# Altium footprint library Connectors.PcbLib: 147 footprints (part 7 of 10)
Each footprint in its own frame and in the unit in brackets; x right, y up, seen from the top. Pads: shape width x height; smd on the part's side, far side on the other; paste and mask are expansions set on the pad; w line width, h text height; cw(c..) or ccw(c..) is an arc to the next point about the centre after c.
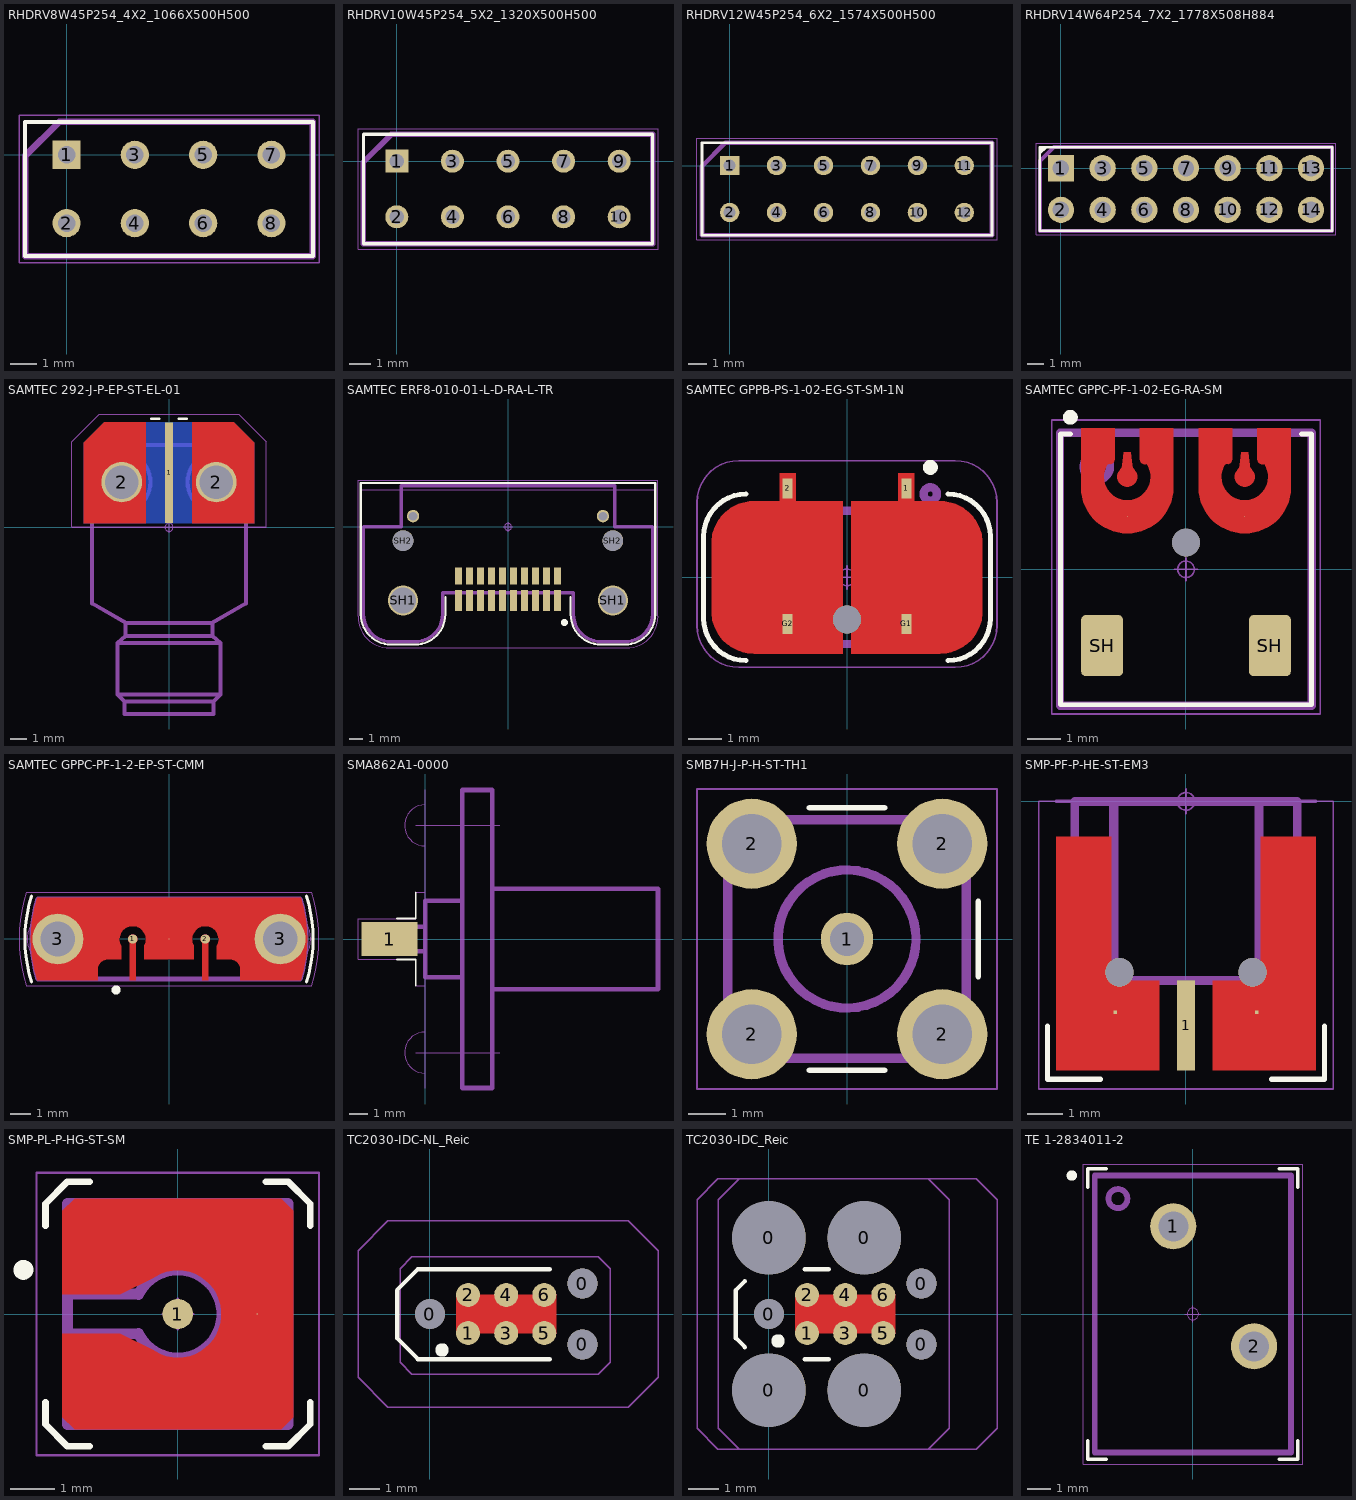
[diagram p6: the footprints below, top view; thin cyan lines are the x and y axes]

## RHDRV8W45P254_4X2_1066X500H500 [mm] "Header, Vertical Receptacle, 2.54 mm pitch; 0.45 mm lead width, 8 pins, 2 rows, 4 pins per row, 10.66 mm L X 5.00 mm W X 5.00 mm H body"
height 5
pads (8):
  rect 1.05x1.05 / inner round 1.05 / far side rect 1.05x1.05 hole 0.65 paste-2539.97: 1(0,0)
  round 1.05 hole 0.65 paste-2539.97: 2(0,-2.54) 3(2.54,0) 4(2.54,-2.54) 5(5.08,0) 6(5.08,-2.54) 7(7.62,0) 8(7.62,-2.54)
Top Overlay:
  lines w0.15: -1.54,-3.77 -1.54,1.23 9.16,1.23 9.16,-3.77 -1.54,-3.77
Top Assembly:
  lines w0.25: -1.54,-3.77 -1.54,-0.04 -0.27,1.23 9.16,1.23 9.16,-3.77 -1.54,-3.77
  text ".Designator" at 0.4,-1.7 h1.5
Top Courtyard:
  circle w0.05: c0,0 r0.25
  lines w0.05: -0.35,0 0.35,0 ; 0,-0.35 0,0.35 ; -1.77,-4.02 -1.77,1.48 9.39,1.48 9.39,-4.02 -1.77,-4.02
3D body "RHDRV8W45P254_4X2_1066X500H500.STEP": height 5, standoff -2, extent -1.52,-3.77 9.14,1.23

## RHDRV10W45P254_5X2_1320X500H500 [mm] "Header, Vertical Receptacle, 2.54 mm pitch; 0.45 mm lead width, 10 pins, 2 rows, 5 pins per row, 13.20 mm L X 5.00 mm W X 5.00 mm H body"
height 5
pads (10):
  rect 1.05x1.05 / inner round 1.05 / far side rect 1.05x1.05 hole 0.65 paste-2539.97: 1(0,0)
  round 1.05 hole 0.65 paste-2539.97: 2(0,-2.54) 3(2.54,0) 4(2.54,-2.54) 5(5.08,0) 6(5.08,-2.54) 7(7.62,0) 8(7.62,-2.54) 9(10.16,0) 10(10.16,-2.54)
Top Overlay:
  lines w0.15: -1.52,-3.77 11.68,-3.77 11.68,1.23 -1.52,1.23 -1.52,-3.77
Top Assembly:
  lines w0.25: -1.52,-3.77 11.68,-3.77 11.68,1.23 -0.25,1.23 -1.52,-0.04 -1.52,-3.77
  text ".Designator" at 2.1,-1.7 h1.5
Top Courtyard:
  circle w0.05: c0,0 r0.25
  lines w0.05: -0.35,0 0.35,0 ; 0,-0.35 0,0.35 ; -1.77,-4.02 11.93,-4.02 11.93,1.48 -1.77,1.48 -1.77,-4.02
3D body "RHDRV10W45P254_5X2_1320X500H500.STEP": height 5, standoff -2, extent -1.52,-3.77 11.68,1.23

## RHDRV12W45P254_6X2_1574X500H500 [mm] "Header, Vertical Receptacle, 2.54 mm pitch; 0.45 mm lead width, 12 pins, 2 rows, 6 pins per row, 15.74 mm L X 5.00 mm W X 5.00 mm H body"
height 5
pads (12):
  rect 1.05x1.05 / inner round 1.05 / far side rect 1.05x1.05 hole 0.65 paste-2539.97: 1(0,0)
  round 1.05 hole 0.65 paste-2539.97: 2(0,-2.54) 3(2.54,0) 4(2.54,-2.54) 5(5.08,0) 6(5.08,-2.54) 7(7.62,0) 8(7.62,-2.54) 9(10.16,0) 10(10.16,-2.54) 11(12.7,0) 12(12.7,-2.54)
Top Overlay:
  lines w0.15: -1.5,-3.77 14.2,-3.77 14.2,1.23 -1.5,1.23 -1.5,-3.77
Top Assembly:
  lines w0.25: -1.5,-3.77 14.2,-3.77 14.2,1.23 -0.23,1.23 -1.5,-0.04 -1.5,-3.77
  text ".Designator" at 2.9,-1.7 h1.5
Top Courtyard:
  circle w0.05: c0,0 r0.25
  lines w0.05: -0.35,0 0.35,0 ; 0,-0.35 0,0.35 ; -1.77,-4.02 14.47,-4.02 14.47,1.48 -1.77,1.48 -1.77,-4.02
3D body "RHDRV12W45P254_6X2_1574X500H500.STEP": height 5, standoff -2, extent -1.52,-3.77 14.22,1.23

## RHDRV14W64P254_7X2_1778X508H884 [mm] "Header, Vertical Receptacle, 2.54 mm pitch; 0.64 mm lead width, 14 pins, 2 rows, 7 pins per row, 17.78 mm L X 5.08 mm W X 8.84 mm H body"
height 8.84
pads (14):
  rect 1.6x1.6 hole 1 paste-2539.97: 1(0,0)
  round 1.6 hole 1 paste-2539.97: 2(0,-2.54) 3(2.54,0) 4(2.54,-2.54) 5(5.08,0) 6(5.08,-2.54) 7(7.62,0) 8(7.62,-2.54) 9(10.16,0) 10(10.16,-2.54) 11(12.7,0) 12(12.7,-2.54) 13(15.24,0) 14(15.24,-2.54)
Top Overlay:
  region: -0.811,1.282 -1.278,0.815 -1.28,1.28
  lines w0.15: -1.28,-3.82 -1.28,1.28 16.52,1.28 16.52,-3.82 -1.28,-3.82
Top Assembly:
  lines w0.25: -1.28,-3.82 -1.28,0.433 -0.433,1.28 16.52,1.28 16.52,-3.82 -1.28,-3.82
  text ".Designator" at 0,0 h1.5
Top Courtyard:
  circle w0.05: c0,0 r0.25
  lines w0.05: -0.35,0 0.35,0 ; 0,-0.35 0,0.35 ; -1.52,-4.06 -1.52,1.52 16.76,1.52 16.76,-4.06 -1.52,-4.06
3D body "RHDRV14W64P254_7X2_1778X508H884.STEP": height 8.84, standoff -2, extent -1.27,-3.81 16.51,1.27

## SAMTEC 292-J-P-EP-ST-EL-01 [mm] "50 Ohm 2.92 mm Jack, Edge Launch Compression Mount"
height 4
pads (3):
  rect 0.52x6.23 smd paste-2539.97: 1(0,3.365)
  round 2.5 hole 2.06 paste-2539.97: 2(-2.921,2.79) 2(2.921,2.79)
Top Layer:
  region: -1.45,6.48 -3.99,6.48 -5.26,5.21 -5.26,0.25 -1.45,0.25
  region: 1.45,6.48 3.99,6.48 5.26,5.21 5.26,0.25 1.45,0.25
Bottom Layer:
  region: 3.99,6.48 -3.99,6.48 -5.26,5.21 -5.26,0.25 5.26,0.25 5.26,5.21
Top Overlay:
  lines w0.15: -1.1,6.7 -0.6,6.7 ; 0.6,6.7 1.1,6.7
Top Assembly:
  circle w0.25: c2.921,2.79 r1.778
  circle w0.25: c-2.921,2.79 r1.778
  lines w0.25: -3.175,-10.343 3.175,-10.343 ; -3.175,-10.343 -2.75,-10.768 ; -3.175,-10.343 -3.175,-7.14 ; -3.175,-7.14 3.175,-7.14 ; -3.175,-7.14 -2.68,-6.71 ; -2.75,-10.768 2.75,-10.768 ; -2.75,-10.768 -2.751,-11.536 2.751,-11.536 2.75,-10.768 ; -2.68,-6.71 2.68,-6.71 ; -2.68,-6.71 -2.68,-5.905 ; -2.68,-5.905 2.68,-5.905 ; -2.68,-5.905 -4.763,-4.703 -4.761,5.076 4.761,5.076 4.763,-4.703 2.68,-5.905 ; 2.68,-6.71 3.175,-7.14 ; 2.68,-6.71 2.68,-5.905 ; 2.75,-10.768 3.175,-10.343 ; 3.175,-10.343 3.175,-7.14
  text ".Designator" at -3.378,-0.339 h1.5
Bottom Assembly:
  lines w0.25: -3.175,-10.343 3.175,-10.343 ; -3.175,-10.343 -2.75,-10.768 ; -3.175,-10.343 -3.175,-7.14 ; -3.175,-7.14 3.175,-7.14 ; -3.175,-7.14 -2.68,-6.71 ; -2.75,-10.768 2.75,-10.768 ; -2.75,-10.768 -2.751,-11.536 2.751,-11.536 2.75,-10.768 ; -2.68,-6.71 2.68,-6.71 ; -2.68,-6.71 -2.68,-5.905 ; -2.68,-5.905 2.68,-5.905 ; -2.68,-5.905 -4.763,-4.703 -4.761,5.076 4.761,5.076 4.763,-4.703 2.68,-5.905 ; 2.68,-6.71 3.175,-7.14 ; 2.68,-6.71 2.68,-5.905 ; 2.75,-10.768 3.175,-10.343 ; 3.175,-10.343 3.175,-7.14
Board:
  lines w0.1: -6,0 6,0
Top Courtyard:
  circle w0.05: c0,0 r0.25
  lines w0.05: -0.35,0 0.35,0 ; 0,-0.35 0,0.35 ; -6,0 -6,5.3 -4.3,7 4.3,7 6,5.3 6,0 -6,0
Bottom Courtyard:
  circle w0.05: c0,0 r0.25
  lines w0.05: -0.35,0 0.35,0 ; 0,-0.35 0,0.35 ; -6,0 -6,5.3 -4.3,7 4.3,7 6,5.3 6,0 -6,0
3D body "292-J-P-EP-ST-EL-01.stp": height 4.11, standoff -3.84, extent -4.763,-11.535 4.763,5.33

## SAMTEC ERF8-010-01-L-D-RA-L-TR [mm] "0.80 mm Edge Rate® Rugged High Speed Socket, Right-Angle, 10 pins"
height 6.25
pads (26):
  rect 0.5x1.25 smd paste-2539.97: 1(3.6,-3.575) 3(2.8,-3.575) 5(2,-3.575) 7(1.2,-3.575) 9(0.4,-3.575) 11(-0.4,-3.575) 13(-1.2,-3.575) 15(-2,-3.575) 17(-2.8,-3.575) 19(-3.6,-3.575)
  rect 0.5x1.5 smd paste-2539.97: 2(3.6,-5.35) 4(2.8,-5.35) 6(2,-5.35) 8(1.2,-5.35) 10(0.4,-5.35) 12(-0.4,-5.35) 14(-1.2,-5.35) 16(-2,-5.35) 18(-2.8,-5.35) 20(-3.6,-5.35)
  round 2.2 hole 1.905: SH1(-7.625,-5.35) SH1(7.625,-5.35)
  round 1.5 hole 1.5 unplated paste-2539.97: SH2(-7.625,-1) SH2(7.625,-1)
  round 0.9 hole 0.63 unplated: SH3(-6.9,0.78) SH3(6.9,0.78)
Top Overlay:
  circle w0.3: c4.1,-6.95 r0.1
  lines w0.15: -4.55,-5.1 -4.55,-6.35 cw(c-6.75,-6.35) -6.75,-8.55 -8.5,-8.55 cw(c-8.5,-6.35) -10.7,-6.35 -10.7,3.2 10.7,3.2 10.7,-6.35 cw(c8.5,-6.35) 8.5,-8.55 6.75,-8.55 cw(c6.75,-6.35) 4.55,-6.35 4.55,-5.1
Top Assembly:
  lines w0.25: -10.5,-6.35 ccw(c-8.5,-6.35) -8.5,-8.35 -6.75,-8.35 ccw(c-6.75,-6.35) -4.75,-6.35 -4.75,-4.799 4.75,-4.799 4.75,-6.35 ccw(c6.75,-6.35) 6.75,-8.35 8.5,-8.35 ccw(c8.5,-6.35) 10.5,-6.35 10.5,0 7.75,0 7.75,3 -7.75,3 -7.75,0 -10.5,0 -10.5,-6.35
Top Courtyard:
  circle w0.05: c0,0 r0.25
  lines w0.05: -10.7,2.7 10.7,2.7 ; -0.35,0 0.35,0 ; 0,-0.35 0,0.35 ; -10.9,-6.5 ccw(c-8.6,-6.5) -8.6,-8.8 8.6,-8.8 ccw(c8.6,-6.5) 10.9,-6.5 10.9,3.4 -10.9,3.4 -10.9,-6.5
  text "EDGE" at -10.433,1.45 h1
3D body "ERF8-010-01-L-D-RA-L-TR.stp": height 6.26, standoff -1.54, extent -10.5,-8.35 10.5,3

## SAMTEC GPPB-PS-1-02-EG-ST-SM-1N [mm] "SMPM Connector Plug, Male Pin Surface Mount, Through Hole Solder"
height 4.1
pads (4):
  rect 0.3x0.6 smd paste-1 mask+0: 1(1.778,2.667) 2(-1.778,2.667) G1(1.778,-1.397) G2(-1.778,-1.397)
via 0,-1.27 diameter 0.838 hole 0.838
Top Layer:
  region: 437 vertices and 0 holes, not listed, extent 0.127,-2.286 4.064,2.286
  region: 2.019,2.134 1.841,2.134 1.841,1.549 1.714,1.549 1.714,2.134 1.537,2.134 1.537,3.124 2.019,3.124
  region: 437 vertices and 0 holes, not listed, extent -4.064,-2.286 -0.127,2.286
  region: -1.537,2.134 -1.714,2.134 -1.714,1.549 -1.841,1.549 -1.841,2.134 -2.019,2.134 -2.019,3.124 -1.537,3.124
  pour cut-out: -2.413,1.986 -2.381,1.969 -2.325,1.921 -2.285,1.86 -2.264,1.79 -2.261,1.753 -2.264,1.716 -2.285,1.646 -2.325,1.584 -2.381,1.536 -2.413,1.519 -2.413,1.397 -2.401,1.38 -2.382,1.344 -2.369,1.306 -2.363,1.265 -2.362,1.245 -2.362,1.067 -2.248,1.067 -2.248,0.32 -2.28,0.243 -2.29,0.075 -2.247,-0.086 -2.153,-0.225 -2.02,-0.327 -1.862,-0.381 -1.694,-0.381 -1.536,-0.327 -1.403,-0.225 -1.309,-0.086 -1.266,0.075 -1.276,0.243 -1.308,0.32 -1.308,1.067 -1.194,1.067 -1.194,1.245 -1.193,1.265 -1.187,1.306 -1.174,1.344 -1.155,1.38 -1.143,1.397 -1.143,1.519 -1.176,1.536 -1.231,1.584 -1.271,1.646 -1.292,1.716 -1.295,1.753 -1.292,1.79 -1.271,1.859 -1.231,1.921 -1.175,1.968 -1.143,1.984 -1.143,2.286 -2.413,2.286
  pour cut-out: 2.413,1.986 2.381,1.969 2.325,1.921 2.285,1.86 2.264,1.79 2.261,1.753 2.264,1.716 2.285,1.646 2.325,1.584 2.381,1.536 2.413,1.519 2.413,1.397 2.401,1.38 2.382,1.344 2.369,1.306 2.363,1.265 2.362,1.245 2.362,1.067 2.248,1.067 2.248,0.32 2.28,0.243 2.29,0.075 2.247,-0.086 2.153,-0.225 2.02,-0.327 1.862,-0.381 1.694,-0.381 1.536,-0.327 1.403,-0.225 1.309,-0.086 1.266,0.075 1.276,0.243 1.308,0.32 1.308,1.067 1.194,1.067 1.194,1.245 1.193,1.265 1.187,1.306 1.174,1.344 1.155,1.38 1.143,1.397 1.143,1.519 1.176,1.536 1.231,1.584 1.271,1.646 1.292,1.716 1.295,1.753 1.292,1.79 1.271,1.859 1.231,1.921 1.175,1.968 1.143,1.984 1.143,2.286 2.413,2.286
Top Overlay:
  circle w0.25: c2.5,3.3 r0.1
  lines w0.15: -3.03,-2.5 cw(c-3.03,-1.23) -4.3,-1.23 -4.3,-1 -4.3,1.23 cw(c-3.03,1.23) -3.03,2.5 ; 3.03,-2.5 ccw(c3.03,-1.23) 4.3,-1.23 4.3,-1 4.3,1.23 ccw(c3.03,1.23) 3.03,2.5
Top Solder:
  drawing of 4 lines, arcs and shapes, not listed
Top Assembly:
  circle w0.25: c2.5,2.5 r0.2
  circle w0.25: c1.8,0 r1.4
  circle w0.25: c-1.8,0 r1.4
  lines w0.25: -3.8,-1 ccw(c-2.8,-1) -2.8,-2 2.8,-2 ccw(c2.8,-1) 3.8,-1 3.8,1 ccw(c2.8,1) 2.8,2 -2.8,2 ccw(c-2.8,1) -3.8,1 -3.8,-1
  text ".Designator" at -3.378,-3.339 h1.5
Top Courtyard:
  circle w0.05: c0,0 r0.25
  lines w0.05: -0.35,0 0.35,0 ; 0,-0.35 0,0.35 ; -4.5,-1.45 ccw(c-3.25,-1.45) -3.25,-2.7 3.25,-2.7 ccw(c3.25,-1.45) 4.5,-1.45 4.5,2.25 ccw(c3.25,2.25) 3.25,3.5 -3.25,3.5 ccw(c-3.25,2.25) -4.5,2.25 -4.5,-1.45
3D body "GPPB-PS-1-02-EG-ST-SM-1N.stp": height 4.08, standoff -0.99, extent -3.81,-2.032 3.81,2.769

## SAMTEC GPPC-PF-1-02-EG-RA-SM [mm] "Magnum RF® Ganged, Multi-Port SMPM Block, 2 pos, SMT"
height 4
pads (7):
  round 0.025 smd: 1(-1.778,2.8) 2(1.778,2.8)
  round 0.025 smd paste-1: G(-1.778,1.6) G(1.778,1.6)
  rrect22% 1.27x1.85 smd mask+0: SH(-2.54,-2.31) SH(2.54,-2.31)
  round 0.84 hole 0.84 unplated: ""(0,0.81)
Top Layer:
  region: -1.631,3.152 -1.63,3.146 -1.629,3.141 -1.628,3.136 -1.627,3.131 -1.626,3.125 -1.625,3.12 -1.623,3.115 -1.622,3.11 -1.62,3.105 -1.619,3.099 -1.617,3.094 -1.615,3.089 -1.613,3.084 -1.611,3.08 -1.608,3.075 -1.606,3.07 -1.603,3.065 -1.601,3.06 -1.598,3.056 -1.595,3.051 -1.593,3.046 -1.59,3.042 -1.587,3.038 -1.583,3.033 -1.58,3.029 -1.577,3.025 -1.573,3.021 -1.57,3.016 -1.566,3.012 -1.562,3.009 -1.533,2.972 -1.509,2.932 -1.491,2.889 -1.481,2.843 -1.478,2.797 -1.482,2.75 -1.494,2.705 -1.512,2.662 -1.537,2.622 -1.567,2.587 -1.603,2.557 -1.643,2.532 -1.686,2.515 -1.731,2.504 -1.778,2.5 -1.825,2.504 -1.87,2.515 -1.913,2.532 -1.953,2.557 -1.989,2.587 -2.019,2.622 -2.044,2.662 -2.062,2.705 -2.074,2.75 -2.078,2.797 -2.075,2.843 -2.065,2.889 -2.047,2.932 -2.023,2.972 -1.994,3.009 -1.99,3.012 -1.986,3.016 -1.983,3.021 -1.979,3.025 -1.976,3.029 -1.973,3.033 -1.969,3.038 -1.966,3.042 -1.963,3.046 -1.961,3.051 -1.958,3.056 -1.955,3.06 -1.953,3.065 -1.95,3.07 -1.948,3.075 -1.945,3.08 -1.943,3.084 -1.941,3.089 -1.939,3.094 -1.937,3.099 -1.936,3.105 -1.934,3.11 -1.933,3.115 -1.931,3.12 -1.93,3.125 -1.929,3.131 -1.928,3.136 -1.927,3.141 -1.926,3.146 -1.925,3.152 -1.878,3.537 -1.678,3.537
  region: 1.925,3.152 1.926,3.146 1.927,3.141 1.928,3.136 1.929,3.131 1.93,3.125 1.931,3.12 1.933,3.115 1.934,3.11 1.936,3.105 1.937,3.099 1.939,3.094 1.941,3.089 1.943,3.084 1.945,3.08 1.948,3.075 1.95,3.07 1.953,3.065 1.955,3.06 1.958,3.056 1.961,3.051 1.963,3.046 1.966,3.042 1.969,3.038 1.973,3.033 1.976,3.029 1.979,3.025 1.983,3.021 1.986,3.016 1.99,3.012 1.994,3.009 2.023,2.972 2.047,2.932 2.065,2.889 2.075,2.843 2.078,2.797 2.074,2.75 2.062,2.705 2.044,2.662 2.019,2.622 1.989,2.587 1.953,2.557 1.913,2.532 1.87,2.515 1.825,2.504 1.778,2.5 1.731,2.504 1.686,2.515 1.643,2.532 1.603,2.557 1.567,2.587 1.537,2.622 1.512,2.662 1.494,2.705 1.482,2.75 1.478,2.797 1.481,2.843 1.491,2.889 1.509,2.932 1.533,2.972 1.562,3.009 1.566,3.012 1.57,3.016 1.573,3.021 1.577,3.025 1.58,3.029 1.583,3.033 1.587,3.038 1.59,3.042 1.593,3.046 1.595,3.051 1.598,3.056 1.601,3.06 1.603,3.065 1.606,3.07 1.608,3.075 1.611,3.08 1.613,3.084 1.615,3.089 1.617,3.094 1.619,3.099 1.62,3.105 1.622,3.11 1.623,3.115 1.625,3.12 1.626,3.125 1.627,3.131 1.628,3.136 1.629,3.141 1.63,3.146 1.631,3.152 1.678,3.537 1.878,3.537
  region: 169 vertices and 0 holes, not listed, extent -3.173,1.085 -0.383,4.27
  region: 169 vertices and 0 holes, not listed, extent 0.383,1.085 3.173,4.27
Top Overlay:
  circle w0.25: c-3.5,4.6 r0.1
  lines w0.15: -3.5,4.1 -3.8,4.1 -3.8,-4.1 3.8,-4.1 3.8,4.1 3.5,4.1
Top Paste:
  drawing of 4 lines, arcs and shapes, not listed
Top Assembly:
  circle w0.25: c-2.7,3.1 r0.4
  lines w0.25: -3.81,-4.13 3.81,-4.13 3.81,4.13 -3.81,4.13 -3.81,-4.13
  text ".Designator" at -3.378,-0.339 h1.5
Top Courtyard:
  circle w0.05: c0,0 r0.25
  lines w0.05: -0.35,0 0.35,0 ; 0,-0.35 0,0.35 ; -4.06,-4.38 4.06,-4.38 4.06,4.52 -4.06,4.52 -4.06,-4.38
3D body "GPPC-PF-1-02-EG-RA-SM.stp": height 4.71, standoff -0.67, extent -3.81,-4.143 3.81,4.112

## SAMTEC GPPC-PF-1-2-EP-ST-CMM [mm] "Magnum RF™ Ganged, Two-Port SMPM Block, Compression Mount"
height 6.22
pads (5):
  round 0.46 smd paste-2539.97: 1(-1.78,0) 2(1.78,0)
  round 2.5 hole 1.7: 3(-5.46,0) 3(5.46,0)
  round 0.025 smd paste-2539.97: 3(0,0)
Top Layer:
  region: -1.743,0.216 -1.707,0.207 -1.673,0.192 -1.641,0.172 -1.614,0.147 -1.59,0.118 -1.572,0.086 -1.559,0.051 -1.551,0.015 -1.55,-0.022 -1.555,-0.059 -1.566,-0.095 -1.582,-0.128 -1.603,-0.158 -1.63,-0.186 -1.63,-2.02 -1.93,-2.02 -1.93,-0.186 -1.957,-0.158 -1.978,-0.128 -1.994,-0.095 -2.005,-0.059 -2.01,-0.022 -2.008,0.015 -2.001,0.051 -1.988,0.086 -1.97,0.118 -1.946,0.147 -1.919,0.172 -1.887,0.192 -1.853,0.207 -1.817,0.216 -1.78,0.219
  region: 1.817,0.216 1.853,0.207 1.887,0.192 1.919,0.172 1.946,0.147 1.97,0.118 1.988,0.086 2.001,0.051 2.008,0.015 2.01,-0.022 2.005,-0.059 1.994,-0.095 1.978,-0.128 1.957,-0.158 1.93,-0.186 1.93,-2.02 1.63,-2.02 1.63,-0.186 1.603,-0.158 1.582,-0.128 1.566,-0.095 1.555,-0.059 1.55,-0.022 1.551,0.015 1.559,0.051 1.572,0.086 1.59,0.118 1.614,0.147 1.641,0.172 1.673,0.192 1.707,0.207 1.743,0.216 1.78,0.219
  region: 196 vertices and 0 holes, not listed, extent -6.78,-2.02 6.78,2.02
Top Overlay:
  circle w0.25: c-2.6,-2.5 r0.1
  lines w0.15: -6.756,-2.102 cw(c0,0) -6.756,2.102 ; 6.756,-2.103 ccw(c0,0) 6.756,2.102
Top Assembly:
  lines w0.25: -6.437,-1.969 cw(c0,0) -6.437,1.968 6.437,1.968 cw(c0,0) 6.437,-1.969 -6.437,-1.969
  text ".Designator" at -3.378,-0.339 h1.5
Top Courtyard:
  circle w0.05: c0,0 r0.25
  lines w0.05: -0.35,0 0.35,0 ; 0,-0.35 0,0.35 ; -7,-2.3 cw(c0,0) -7,2.3 7,2.3 cw(c0,0) 7,-2.3 -7,-2.3
Bottom Courtyard:
  circle w0.05: c5.46,0 r1.5
  circle w0.05: c-5.46,0 r1.5
3D body "GPPC-PF-1-2-EP-ST-CMM.stp": height 6.29, standoff -3.13, extent -6.756,-2.102 6.756,2.102

## SMA862A1-0000 [mm] "SMA Jack For Panel Receptacle 50Ohm 2 Holes"
height 1.27
pads (1):
  rect 3x1.8 smd paste-0.1 mask-0.1: 1(-1.9,0)
Top Overlay:
  lines w0.1: -1.5,-1.1 -0.5,-1.1 -0.5,-2.5 ; -1.5,1.1 -0.5,1.1 -0.5,2.5
Top Assembly:
  lines w0.25: 0,-0.65 -3,-0.65 -3,0.65 0,0.65 ; 2,-2.05 0,-2.05 0,2.05 2,2.05 ; 3.6,-2.7 12.5,-2.7 12.5,2.7 3.6,2.7 ; 2,-8 3.6,-8 3.6,8 2,8 2,-8
  text ".Designator" at 4.1,-0.4 h1.5
Bottom Assembly:
  lines w0.25: 2,-2.05 0,-2.05 0,2.05 2,2.05 ; 3.6,-2.7 12.5,-2.7 12.5,2.7 3.6,2.7 ; 2,-8 2,8 3.6,8 3.6,-8 2,-8
Top Courtyard:
  lines w0.05: -0.5,-6.1 4,-6.1 ; -0.5,6.1 4,6.1 ; 0,-8 0,8 ; 0,-7.2 cw(c0,-6.1) 0,-5 ; 0,-2.5 -0.5,-2.5 -0.5,-1.1 -3.6,-1.1 -3.6,1.1 -0.5,1.1 -0.5,2.5 0,2.5 ; 0,5 cw(c0,6.1) 0,7.2
Bottom Courtyard:
  lines w0.05: -0.5,-6.1 4,-6.1 ; -0.5,6.1 4,6.1 ; 0,-8 0,8 ; 0,-7.2 cw(c0,-6.1) 0,-5 ; 0,-2.5 -0.5,-2.5 -0.5,-1.1 -3.6,-1.1 -3.6,1.1 -0.5,1.1 -0.5,2.5 0,2.5 ; 0,5 cw(c0,6.1) 0,7.2
3D body "SMA862A1-0000.STEP": height 3.81, standoff -2.54, extent -3,-8 12.5,8

## SMB7H-J-P-H-ST-TH1 [mm] "Samtec 75? True 75™ SMB Jack, Through-hole"
height 6.35
pads (5):
  round 1.4 hole 0.9: 1(0,0)
  round 2.4 hole 1.6: 2(-2.54,-2.54) 2(-2.54,2.54) 2(2.54,-2.54) 2(2.54,2.54)
Top Overlay:
  lines w0.15: -1,-3.5 1,-3.5 ; -1,3.5 1,3.5 ; 3.5,-1 3.5,1
Top Assembly:
  circle w0.25: c0,0 r1.84
  lines w0.25: -3.175,-3.175 3.175,-3.175 3.175,3.175 -3.175,3.175 -3.175,-3.175
  text ".Designator" at -2.8,-2.8 h1.5
Top Courtyard:
  circle w0.05: c0,0 r0.25
  lines w0.05: -0.35,0 0.35,0 ; 0,-0.35 0,0.35 ; -4,-4 4,-4 4,4 -4,4 -4,-4
3D body "SMB7H_J_P_H_ST_TH1.STEP": height 7.99, standoff -3.44, extent -3.175,-3.175 3.175,3.175

## SMP-PF-P-HE-ST-EM3 [mm] "Samtec 50 Ohm SMP Plug, Edge Mount"
height 4.34
pads (3):
  rect 0.51x2.54 smd: 1(0,-6.35)
  rect 0.1x0.1 smd: 2(-2,-5.974) 2(2,-5.974)
via -1.885,-4.84 diameter 0.8 hole 0.8
via 1.885,-4.84 diameter 0.8 hole 0.8
Top Layer:
  region: 0.76,-7.62 0.76,-5.08 1.57,-5.08 1.628,-5.141 1.776,-5.219 1.942,-5.23 2.099,-5.171 2.217,-5.053 2.275,-4.896 2.264,-4.73 2.186,-4.582 2.125,-4.524 2.125,-1 3.675,-1 3.675,-7.62
  region: -0.76,-7.62 -0.76,-5.08 -1.57,-5.08 -1.628,-5.141 -1.776,-5.219 -1.942,-5.23 -2.099,-5.171 -2.217,-5.053 -2.275,-4.896 -2.264,-4.73 -2.186,-4.582 -2.125,-4.524 -2.125,-1 -3.675,-1 -3.675,-7.62
Top Overlay:
  lines w0.15: -3.925,-6.374 -3.925,-7.874 -2.425,-7.874 ; 2.425,-7.874 3.925,-7.874 3.925,-6.374
Top Assembly:
  lines w0.25: -3.15,-5.08 3.15,-5.08 ; -1.026,-5.08 -1.026,-7.37 -3.15,-7.37 -3.15,0 3.15,0 3.15,-7.37 1.025,-7.37 1.025,-5.08
  text ".Designator" at -3.378,-2.313 h1.5
Bottom Assembly:
  lines w0.25: -2.03,-5.08 2.069,-5.08 2.069,0 -2.03,0 -2.03,-5.08
Board:
  lines w0.1: -3.675,0 -2.125,0 -2.125,-5.08 2.125,-5.08 2.125,0 3.675,0
Top Courtyard:
  circle w0.05: c0,0 r0.25
  lines w0.05: -0.35,0 0.35,0 ; 0,-0.35 0,0.35 ; -4.175,-8.15 4.175,-8.15 4.175,0 -4.175,0 -4.175,-8.15
3D body "SMP-PF-P-HE-ST-EM3.stp": height 2.47, standoff -1.87, extent -3.174,-7.37 3.174,0

## SMP-PL-P-HG-ST-SM [mm] "Samtec 50 Ohm SMP Plug, Surface Mount, 40 GHz, SMP-SM Series"
height 4.1
pads (2):
  round 0.69 smd paste-2539.97: 1(0,0)
  round 0.025 smd: 2(1.8,0)
Top Layer:
  region: -2.615,-2.341 -2.615,-0.445 -1.3,-0.445 -0.567,-0.811 -0.511,-0.848 -0.391,-0.91 -0.263,-0.954 -0.131,-0.981 0.003,-0.99 0.138,-0.98 0.27,-0.953 0.397,-0.907 0.516,-0.845 0.626,-0.767 0.724,-0.675 0.809,-0.57 0.879,-0.455 0.933,-0.331 0.969,-0.201 0.988,-0.068 0.988,0.067 0.969,0.201 0.933,0.331 0.88,0.454 0.81,0.57 0.725,0.674 0.626,0.767 0.516,0.845 0.397,0.907 0.27,0.952 0.138,0.98 0.004,0.99 -0.131,0.981 -0.263,0.954 -0.39,0.91 -0.51,0.848 -0.567,0.812 -1.3,0.445 -2.615,0.445 -2.615,2.341 -2.341,2.615 2.341,2.615 2.615,2.341 2.615,-2.341 2.341,-2.615 -2.341,-2.615
Top Overlay:
  circle w0.25: c-3.5,1 r0.1
  lines w0.15: -3,-2 -3,-2.5 -2.5,-3 -2,-3 ; -3,2 -3,2.5 -2.5,3 -2,3 ; 2,-3 2.5,-3 3,-2.5 3,-2 ; 2,3 2.5,3 3,2.5 3,2
Top Assembly:
  lines w0.25: -2.5,-0.45 -0.894,-0.447 ccw(c0,0) -0.894,0.447 ; -2.5,0.45 -0.894,0.45 ; -2.5,-2.5 2.5,-2.5 2.5,2.5 -2.5,2.5 -2.5,-2.5
  text ".Designator" at -3.378,1.461 h1.5
Top Courtyard:
  circle w0.05: c0,0 r0.25
  lines w0.05: -0.35,0 0.35,0 ; 0,-0.35 0,0.35 ; -3.2,-3.2 3.2,-3.2 3.2,3.2 -3.2,3.2 -3.2,-3.2
3D body "SMP-PL-P-HG-ST-SM.stp": height 4.13, standoff 0.01, extent -2.502,-2.502 2.502,2.502

## TC2030-IDC-NL_Reic [mm] "Контактные точки TC2030-IDC-NL"
pads (9):
  round 1 hole 1 unplated paste-2539.97: 0(0,0) 0(5.08,-1.016) 0(5.08,1.016)
  round 0.8 smd paste-2539.97: 1(1.27,-0.635) 2(1.27,0.635) 3(2.54,-0.635) 4(2.54,0.635) 5(3.81,-0.635) 6(3.81,0.635)
Top Layer:
  pour cut-out: 0.87,0.635 0.87,-0.635 4.21,-0.635 4.21,0.635
Top Overlay:
  circle w0.25: c0.4,-1.2 r0.1
  lines w0.15: 4,-1.5 -0.4,-1.5 -1.1,-0.8 -1.1,0.8 -0.4,1.5 4,1.5
Top Courtyard:
  circle w0.05: c0,0 r0.25
  lines w0.05: -0.35,0 0.35,0 ; 0,-0.35 0,0.35 ; -2.4,-2.1 -1.4,-3.1 6.6,-3.1 7.6,-2.1 7.6,2.1 6.6,3.1 -1.4,3.1 -2.4,2.1 -2.4,-2.1
Bottom Courtyard:
  circle w0.05: c0,0 r0.25
  lines w0.05: -0.35,0 0.35,0 ; 0,-0.35 0,0.35 ; -1,-1.6 -0.6,-2 5.6,-2 6,-1.6 6,1.5 5.6,1.9 -0.6,1.9 -1,1.5 -1,-1.6

## TC2030-IDC_Reic [mm] "Контактные точки TC2030-IDC"
pads (13):
  round 2.45 hole 2.45 unplated paste-2539.97: 0(0,-2.54) 0(0,2.54) 0(3.175,-2.54) 0(3.175,2.54)
  round 1 hole 1 unplated paste-2539.97: 0(0,0) 0(5.08,-1.016) 0(5.08,1.016)
  round 0.8 smd paste-2539.97: 1(1.27,-0.635) 2(1.27,0.635) 3(2.54,-0.635) 4(2.54,0.635) 5(3.81,-0.635) 6(3.81,0.635)
Top Layer:
  pour cut-out: 0.87,0.635 0.87,-0.635 4.21,-0.635 4.21,0.635
Top Overlay:
  circle w0.25: c0.3,-0.9 r0.1
  lines w0.15: -0.8,-1.1 -1.1,-0.8 -1.1,0.8 -0.8,1.1 ; 1.2,-1.5 2,-1.5 ; 1.2,1.5 2,1.5
Top Courtyard:
  circle w0.05: c0,0 r0.25
  lines w0.05: -0.35,0 0.35,0 ; 0,-0.35 0,0.35 ; -2.4,-3.8 -1.7,-4.5 6.9,-4.5 7.6,-3.8 7.6,3.8 6.9,4.5 -1.7,4.5 -2.4,3.8 -2.4,-3.8
Bottom Courtyard:
  circle w0.05: c0,0 r0.25
  lines w0.05: -0.35,0 0.35,0 ; 0,-0.35 0,0.35 ; -1.7,-3.8 -1,-4.5 5.3,-4.5 6,-3.8 6,3.8 5.3,4.5 -1,4.5 -1.7,3.8 -1.7,-3.8

## TE 1-2834011-2 [mm] "PCB Terminal Blocks, Receptacle, Wire-to-Board, 2 Position, 1 Row, 45° Wire Entry Angle, 20 – 14 AWG Wire Size, Operating Voltage 300 VAC"
height 12.8
pads (2):
  round 2 hole 1.3 paste-2539.97: 1(-0.85,3.8) 2(2.65,-1.4)
Top Overlay:
  circle w0.25: c-5.25,6 r0.1
  lines w0.15: -4.55,-5.5 -4.55,-6.3 -3.75,-6.3 ; -4.55,5.5 -4.55,6.3 -3.75,6.3 ; 3.75,-6.3 4.55,-6.3 4.55,-5.5 ; 3.75,6.3 4.55,6.3 4.55,5.5
  text ".Net1" at -0.326,-9.537 h1.5
  text ".Net2" at 3.124,-9.714 h1.5
Top Assembly:
  circle w0.25: c-3.25,5 r0.412
  lines w0.25: -4.25,-6 4.25,-6 4.25,6 -4.25,6 -4.25,-6
  text ".Designator" at -3.378,-0.339 h1.5
Top Courtyard:
  circle w0.05: c0,0 r0.25
  lines w0.05: -0.35,0 0.35,0 ; 0,-0.35 0,0.35 ; -4.75,-6.5 4.75,-6.5 4.75,6.5 -4.75,6.5 -4.75,-6.5
3D body "c-1-2834011-2-2-3d-Colors.STEP": height 12.94, standoff -3.49, extent -4.25,-6 4.25,6